# Altium schematic symbol library TSW-107-07-L-S.SchLib: 1 symbol
Pins are listed as number, name and electrical type; pins without a type are passive.

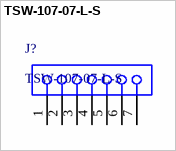
[diagram p0: symbol TSW-107-07-L-S]

## TSW-107-07-L-S
designator J?
Conn Unshrouded Header HDR 7 POS 2.54mm Solder ST Thru-Hole; Supplier 1: Digi-Key; Supplier Part Number 1: SAM1031-07-ND
footprint TSW-107-07-L-S (Conn Unshrouded Header HDR 7 POS 2.54mm Solder ST Thru-Hole)
pins: 1, 2, 3, 4, 5, 6, 7